# Altium footprint library Raspberry_Pi_PicoSMD.PcbLib: 1 footprints
Each footprint in its own frame and in the unit in brackets; x right, y up, seen from the top. Pads: shape width x height; smd on the part's side, far side on the other; paste and mask are expansions set on the pad; w line width, h text height; cw(c..) or ccw(c..) is an arc to the next point about the centre after c.
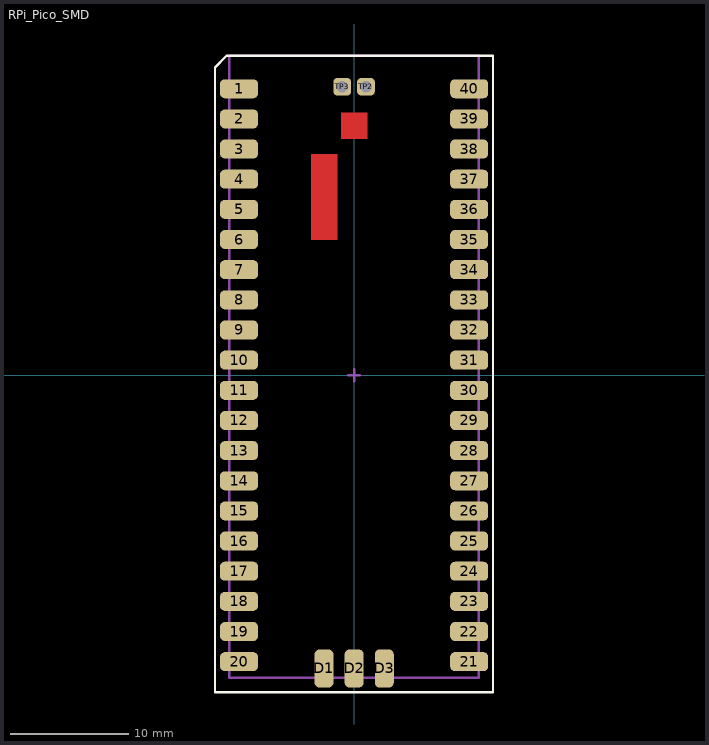
[diagram p0: the footprint, top view; thin cyan lines are the x and y axes]

## RPi_Pico_SMD [mm]
pads (45):
  rrect50% 3.2x1.6 smd: 1(-9.69,24.13) 2(-9.69,21.59) 3(-9.69,19.05) 4(-9.69,16.51) 5(-9.69,13.97) 6(-9.69,11.43) 7(-9.69,8.89) 8(-9.69,6.35) 9(-9.69,3.81) 10(-9.69,1.27) 11(-9.69,-1.27) 12(-9.69,-3.81) 13(-9.69,-6.35) 14(-9.69,-8.89) 15(-9.69,-11.43) 16(-9.69,-13.97) 17(-9.69,-16.51) 18(-9.69,-19.05) 19(-9.69,-21.59) 20(-9.69,-24.13) 21(9.69,-24.13) 22(9.69,-21.59) 23(9.69,-19.05) 24(9.69,-16.51) 25(9.69,-13.97) 26(9.69,-11.43) 27(9.69,-8.89) 28(9.69,-6.35) 29(9.69,-3.81) 30(9.69,-1.27) 31(9.69,1.27) 32(9.69,3.81) 33(9.69,6.35) 34(9.69,8.89) 35(9.69,11.43) 36(9.69,13.97) 37(9.69,16.51) 38(9.69,19.05) 39(9.69,21.59) 40(9.69,24.13)
  rrect50% 1.6x3.2 smd: D1(-2.54,-24.7) D2(0,-24.7) D3(2.54,-24.7)
  rrect50% 1.5x1.5 hole 1: TP2(1,24.3) TP3(-1,24.3)
Top Layer:
  pour cut-out: -1.4,18.6 -1.4,11.4 -3.6,11.4 -3.6,18.6
  pour cut-out: 1.1,22.1 1.1,19.9 -1.1,19.9 -1.1,22.1
Top Overlay:
  lines w0.2: -11.72,-26.7 -11.72,25.93 -10.745,26.905 11.7,26.905 11.7,-26.7 -11.72,-26.7
Top Assembly:
  lines w0.2: -10.52,-25.5 -10.52,26.905 10.5,26.905 10.5,-25.5 -10.52,-25.5
  text "'.Designator'" at -4.532,-0.333 h0.8
Mechanical 15:
  lines w0.2: -0.5,0 0.5,0 ; 0,-0.5 0,0.5 ; -10.52,-25.5 -10.52,26.905 10.5,26.905 10.5,-25.5 -10.52,-25.5
3D body "Raspberry Pi Pico-R3.STEP": height 3.69, standoff 0, extent -10.5,-25.5 10.5,26.926